# Altium schematic symbol library IC_Ext.SchLib: 2 symbols
Pins are listed as number, name and electrical type; pins without a type are passive.

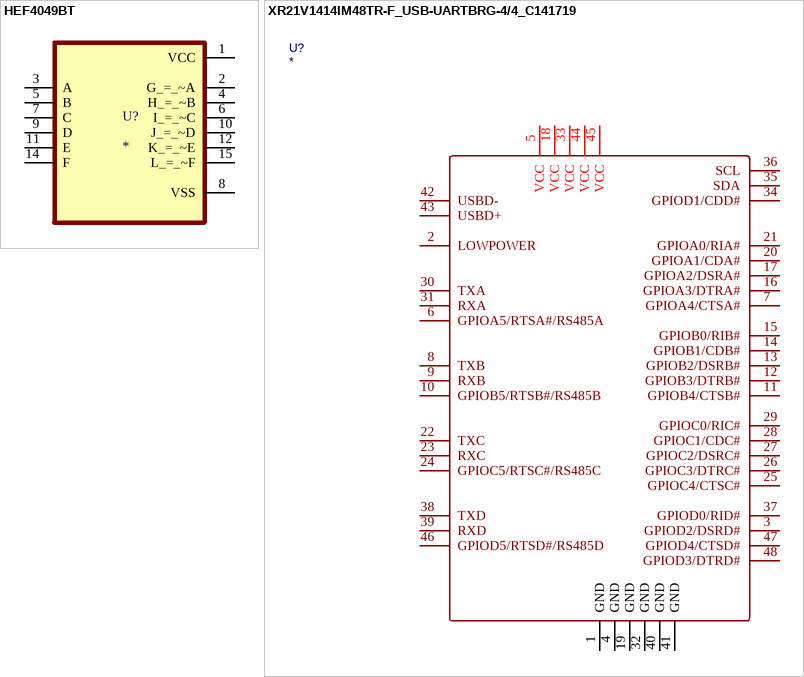
[diagram p0: symbols HEF4049BT to XR21V1414IM48TR-F_USB-UARTBRG-4/4_C141719]

## HEF4049BT
designator U?
CMOS 4049 hex Inverters; BOM_Manufacturer: Nexperia; BOM_Manufacturer Part: HEF4049BT; SMT Type: Extend; BOM_JLCPCB SMD: Yes; BOM_LCSC Assembly: Yes; BOM_Supplier: LCSC; BOM_Supplier Part: C6735; ComponentLink1URL: https://lcsc.com/product-detail/4000-Series_Nexperia-HEF4049BT_C6735.html; Datasheet: https://datasheet.lcsc.com/szlcsc/1809291820_Nexperia-HEF4049BT_C6735.pdf; JLCPCB_Mount: SMD; Package: SOIC-16_150mil; Supplier: LC
footprint SOIC127P600X175-16N
pins: 1 VCC (power), 2 G_=_~A, 3 A, 4 H_=_~B, 5 B, 6 I_=_~C, 7 C, 8 VSS (power), 9 D, 10 J_=_~D, 11 E, 12 K_=_~E, 14 F, 15 L_=_~F

## XR21V1414IM48TR-F_USB-UARTBRG-4/4_C141719
designator U?
Transceiver USB 4/4 12Mbps TQFP-48_7x7x05P USB ICs RoHS  C141719; BOM_Manufacturer: Exar; BOM_Manufacturer Part: XR21V1414IM48TR-F; Contributor: LCSC; SMT Type: Extend; BOM_Supplier: LCSC; BOM_Supplier Part: C141719; BOM_JLCPCB SMD: Yes; BOM_LCSC Assembly: Yes; spicePre: U; spiceSymbolName: XR21V1414IM48TR-F
footprint TQFP-48_L7.0-W7.0-P0.50-LS9.0-TL
pins: 1 GND, 2 LOWPOWER, 3 GPIOD2/DSRD#, 4 GND, 5 VCC, 6 GPIOA5/RTSA#/RS485A, 7 GPIOA4/CTSA#, 8 TXB, 9 RXB, 10 GPIOB5/RTSB#/RS485B, 11 GPIOB4/CTSB#, 12 GPIOB3/DTRB#, 13 GPIOB2/DSRB#, 14 GPIOB1/CDB#, 15 GPIOB0/RIB#, 16 GPIOA3/DTRA#, 17 GPIOA2/DSRA#, 18 VCC, 19 GND, 20 GPIOA1/CDA#, 21 GPIOA0/RIA#, 22 TXC, 23 RXC, 24 GPIOC5/RTSC#/RS485C, 25 GPIOC4/CTSC#, 26 GPIOC3/DTRC#, 27 GPIOC2/DSRC#, 28 GPIOC1/CDC#, 29 GPIOC0/RIC#, 30 TXA, 31 RXA, 32 GND, 33 VCC, 34 GPIOD1/CDD#, 35 SDA, 36 SCL, 37 GPIOD0/RID#, 38 TXD, 39 RXD, 40 GND, 41 GND, 42 USBD-, 43 USBD+, 44 VCC, 45 VCC, 46 GPIOD5/RTSD#/RS485D, 47 GPIOD4/CTSD#, 48 GPIOD3/DTRD#